# Altium schematic symbol library ADC0808CNN.SchLib: 1 symbol
Pins are listed as number, name and electrical type; pins without a type are passive.

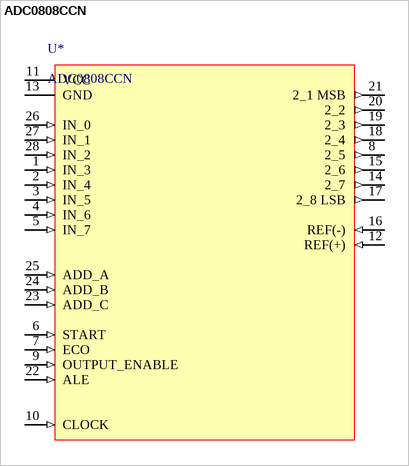
[diagram p0: symbol ADC0808CCN]

## ADC0808CCN
designator U*
ADC0808 ADC0809 8-bit analog-to-digital converter 8-channel multiplexer; ComponentLink1Description: Datasheet; ComponentLink1URL: https://pdf.datasheetcatalog.com/datasheet/nationalsemiconductor/DS005672.PDF
footprint DIP254P1524X483-28
pins: 1 IN_3 (in), 2 IN_4 (in), 3 IN_5 (in), 4 IN_6 (in), 5 IN_7 (in), 6 START (in), 7 ECO (in), 8 2_5 (out), 9 OUTPUT_ENABLE (in), 10 CLOCK (in), 11 VCC (power), 12 REF(+) (in), 13 GND (power), 14 2_7 (out), 15 2_6 (out), 16 REF(-) (in), 17 2_8 LSB (out), 18 2_4 (out), 19 2_3 (out), 20 2_2 (out), 21 2_1 MSB (out), 22 ALE (in), 23 ADD_C (in), 24 ADD_B (in), 25 ADD_A (in), 26 IN_0 (in), 27 IN_1 (in), 28 IN_2 (in)